# EAGLE library part IV-27_RIGHT (library Russian-VFD-tubes)
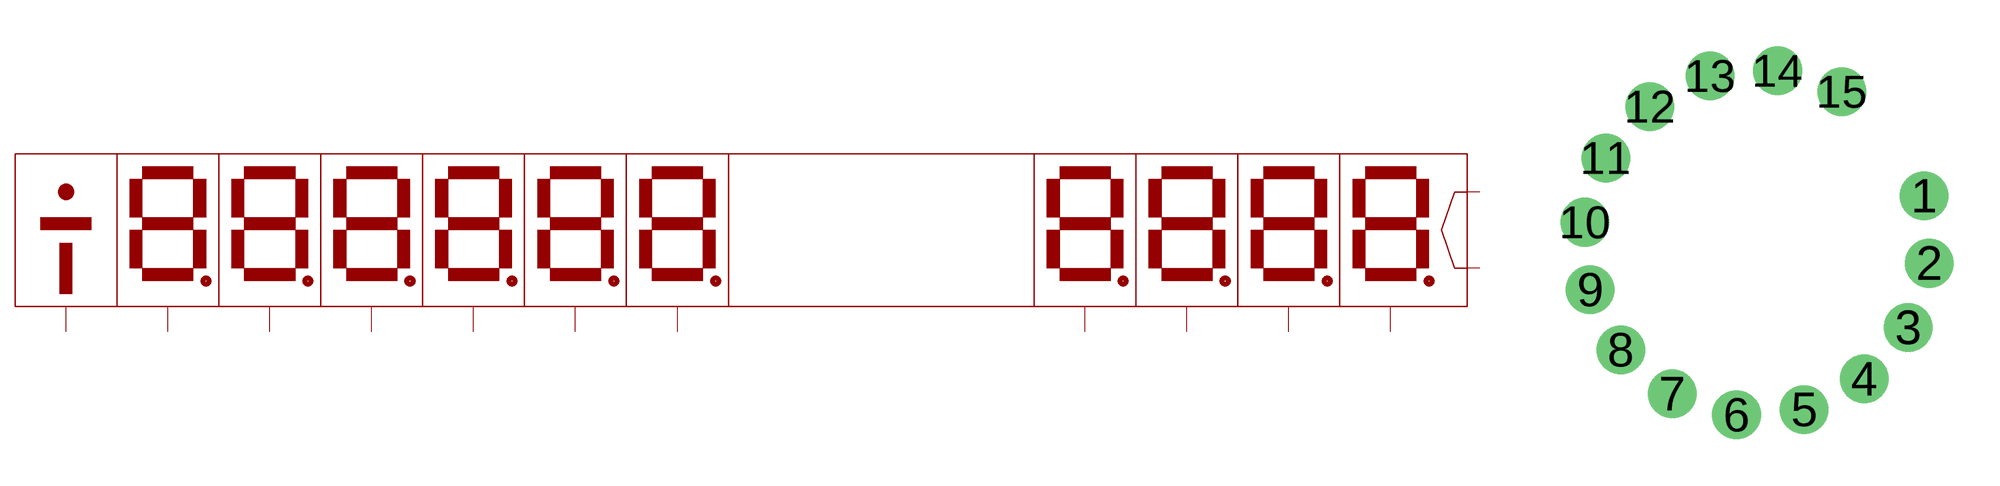
[diagram p9: symbol with the pads of IV-27_RIGHT; footprint IV-27_RIGHT]

Designator prefix -

## IV-27_RIGHT  [IV-27_RIGHT]
1  GRID_3
2  GRID_14
3  GRID_12
4  GRID_10
5  GRID_8
7  GRID_9
8  GRID_11
9  GRID_13
10  GRID_1
11  GRID_2
12  GRID_4
13  CHATODE/FILAMENT/SPUTTERED_SHIELD
15  CATHODE/FILAMENT

## Footprint IV-27_RIGHT (pad centres in mm)
IV-27_right
drill 1.05: 1 5.517,1.654; 2 5.686,-0.527; 3 5.008,-2.607; 4 3.586,-4.27; 5 1.635,-5.262; 6 -0.546,-5.431; 7 -2.626,-4.753; 8 -4.289,-3.331; 9 -5.281,-1.381; 10 -5.45,0.801; 11 -4.772,2.881; 12 -3.35,4.544; 13 -1.4,5.535; 14 0.782,5.705; 15 2.862,5.027